# Altium integrated library UVR1E100MDD.IntLib: 1 symbol
Pins are listed as number, name and electrical type; pins without a type are passive.

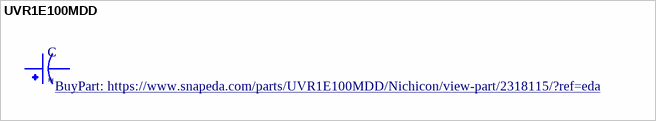
[diagram p0: symbol UVR1E100MDD]

## UVR1E100MDD
designator C
10ÂµF 25V Aluminum Electrolytic Capacitors Radial, Can 2000 Hrs @ 85Â°C; MP: UVR1E100MDD; MF: Nichicon; Value: *; Availability: Warning; Mouser-Purchase-URL: https://snapeda.com/shop?store=Mouser&id=2318115; SnapEDA_Link: https://www.snapeda.com/parts/UVR1E100MDD/Nichicon/view-part/2318115/?ref=snap; Price: None; Package: Radial Nichicon; BuyPart: https://www.snapeda.com/parts/UVR1E100MDD/Nichicon/view-part/2318115/?ref=eda
footprint CAPPRD200W50D550H1250
pins: 1, 2